# EAGLE library part HDR-100-06_S (library con-molex-kk)
HEADER
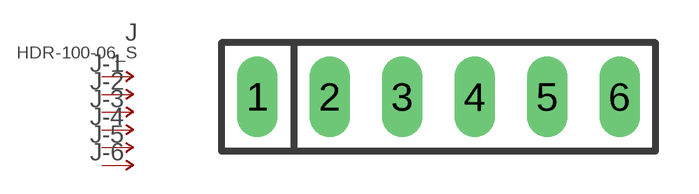
[diagram p159: symbol with the pads of HDR-100-06; footprint HDR-100-06]

Designator prefix J; gates -1=P-NV -2=P-N -3=P-N -4=P-N -5=P-N -6=P-N

## HDR-100-06_S  [HDR-100-06]
1  -1:P  pas
2  -2:P  pas
3  -3:P  pas
4  -4:P  pas
5  -5:P  pas
6  -6:P  pas

## Footprint HDR-100-06 (pad centres in mm)
HEADER - pitch 0.1"
drill 0.914 long: 1 -6.35,0; 2 -3.81,0; 3 -1.27,0; 4 1.27,0; 5 3.81,0; 6 6.35,0